# EAGLE library part W25Q32JV (library memory)
IC FLASH 32M SPI 133MHZ 8SOIC
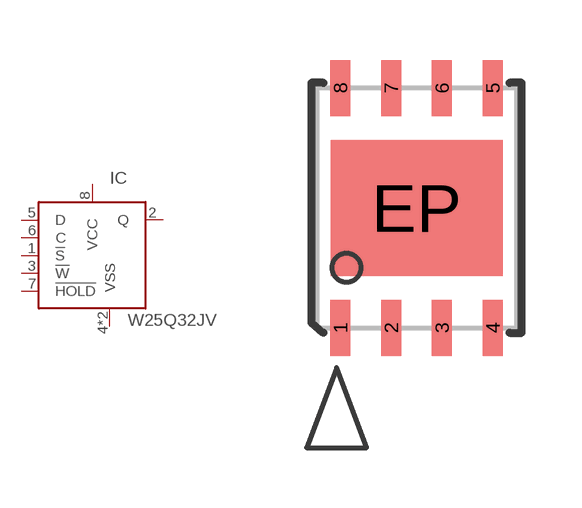
[diagram p1: symbol with the pads of WSON8-6X5MM; footprint WSON8-6X5MM]

Designator prefix IC

## W25Q32JV-ZPIM (MARK: 25Q32JVIM; MF: WinBond; MPN: W25Q32JVZPIM)  [WSON8-6X5MM]
1  !S
2  Q
3  !W
4  VSS
5  D
6  C
7  !HOLD
8  VCC
EP  VSS

## Footprint WSON8-6X5MM (pad centres in mm)
smd 0.5 x 1.4: 1 -1.905,-3; 2 -0.635,-3; 3 0.635,-3; 4 1.905,-3; 5 1.905,3; 6 0.635,3; 7 -0.635,3; 8 -1.905,3
smd 4.3 x 3.4: EP 0,0